# Altium schematic symbol library Miscellaneous.SchLib: 20 symbols
Pins are listed as number, name and electrical type; pins without a type are passive.

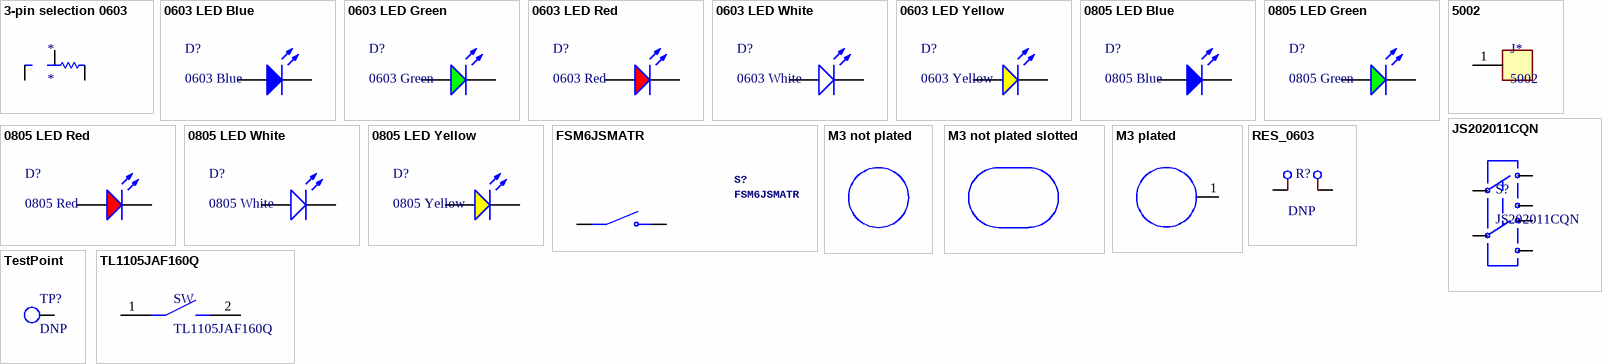
[diagram p0: symbols 3-pin selection 0603 to TL1105JAF160Q]

## 3-pin selection 0603
designator *
3-pin selection 0603
footprint 3-PIN SELECTION CIRCUIT
pins: 1, 2, 3

## 0603 LED Blue
designator D?, comment 0603 Blue
LED; ComponentLink1Description: 供应商链接; ComponentLink1URL: http://www.szlcsc.com/product/details_73150.html; Package: 0603; Supplier: LC; SuppliersPartNumber: C72041; Color: Blue
footprint 0603_LED_S1
pins: A, K

## 0603 LED Green
designator D?, comment 0603 Green
LED; ComponentLink1Description: 供应商链接; ComponentLink1URL: http://www.szlcsc.com/product/details_73152.html; Package: 0603; Supplier: LC; SuppliersPartNumber: C72043; Color: Green
footprint 0603_LED_S1
pins: A, K

## 0603 LED Red
designator D?, comment 0603 Red
LED; ComponentLink1Description: 供应商链接; ComponentLink1URL: http://www.szlcsc.com/product/details_2659.html; Package: 0603; Supplier: LC; SuppliersPartNumber: C2286; Color: Red
footprint 0603_LED_S1
pins: A, K

## 0603 LED White
designator D?, comment 0603 White
LED; ComponentLink1Description: 供应商链接; ComponentLink1URL: http://www.szlcsc.com/product/details_2663.html; Package: 0603; Supplier: LC; SuppliersPartNumber: C2290; Color: White
footprint 0603_LED_S1
pins: A, K

## 0603 LED Yellow
designator D?, comment 0603 Yellow
LED; ComponentLink1Description: 供应商链接; ComponentLink1URL: http://www.szlcsc.com/product/details_73147.html; Package: 0603; Supplier: LC; SuppliersPartNumber: C72038; Color: Yellow
footprint 0603_LED_S1
pins: A, K

## 0805 LED Blue
designator D?, comment 0805 Blue
LED; ComponentLink1Description: 供应商链接; ComponentLink1URL: http://www.szlcsc.com/product/details_2666.html; Package: 0805; Supplier: LC; SuppliersPartNumber: C2293; Color: Blue
footprint 0805_LED_S1
pins: A, K

## 0805 LED Green
designator D?, comment 0805 Green
LED; ComponentLink1Description: 供应商链接; ComponentLink1URL: http://www.szlcsc.com/product/details_2670.html; Package: 0805; Supplier: LC; SuppliersPartNumber: C2297; Color: Green
footprint 0805_LED_S1
pins: A, K

## 0805 LED Red
designator D?, comment 0805 Red
LED; ComponentLink1Description: 供应商链接; ComponentLink1URL: http://www.szlcsc.com/product/details_2668.html; Package: 0805; Supplier: LC; SuppliersPartNumber: C2295; Color: Red
footprint 0805_LED_S1
pins: A, K

## 0805 LED White
designator D?, comment 0805 White
LED; ComponentLink1Description: 供应商链接; ComponentLink1URL: http://www.szlcsc.com/product/details_35468.html; Package: 0805; Supplier: LC; SuppliersPartNumber: C34499; Color: White
footprint 0805_LED_S1
pins: A, K

## 0805 LED Yellow
designator D?, comment 0805 Yellow
LED; ComponentLink1Description: 供应商链接; ComponentLink1URL: http://www.szlcsc.com/product/details_2669.html; Package: 0805; Supplier: LC; SuppliersPartNumber: C2296; Color: Yellow
footprint 0805_LED_S1
pins: A, K

## 5002
designator J*
Test Point Ring Keystone; Manufacturer: Keystone Electronics; Value: Test Point Keystone Electronics; Package: *; PartNumber: 5002; SupplierNumber: 36-5002-ND; SuppliersPartNumber: C238123; Link: https://www.digikey.ca/en/products/detail/keystone-electronics/5002/255328
footprint KEYSTONE_5002
pins: 1

## FSM6JSMATR
designator S?
Toggle switch; Manufacturer_Name: TE Connectivity; Value: *; Mouser_Price-Stock: https://www.mouser.co.uk/ProductDetail/TE-Connectivity-Alcoswitch/FSM6JSMATR/?qs=Im7Ui%252B8riBUZTeJpDMC8Dg%3D%3D; Link: https://www.digikey.ca/en/products/detail/te-connectivity-alcoswitch-switches/FSM6JSMATR/2400236; Package: *; PartNumber: FSM6JSMATR; SupplierPartNumber: 450-2058-2-ND; SuppliersPartNumber: C178262
footprint ToggleSwitch_SM6JSMATR
pins: 1 COM, 2 COM, 3 NO, 4 NO

## JS202011CQN
designator S?
Switch Slide DPDT Through Hole; Manufacturer: C&K; Package: *; Price: None; Value: *; PartNumber: JS202011CQN; Link: https://www.digikey.ca/en/products/detail/c-k/JS202011CQN/1640097; SupplierNumber: 401-2001-ND; SuppliersPartNumber: 221663
footprint SWITCH_JS202011CQN
pins: 1 (io), 2 (io), 3 (io), 4 (io), 5 (io), 6 (io)

## M3 not plated
designator H?  (value not drawn)
M3 hole not plated
footprint M3 not plated

## M3 not plated slotted
designator H?  (value not drawn)
M3 hole not plated slotted
footprint M3 not plated - slotted

## M3 plated
designator H?  (value not drawn)
M3 hole plated
footprint M3 plated
pins: 1

## RES_0603
designator R?, comment value DNP  (hidden comment: 0603 Resistor DNP)
0603 RES Footprint; SuppliersPartNumber: *
footprint RES_0603_DNP
pins: 1, 2

## TestPoint
designator TP?, comment DNP
Test Point
footprint Test Hole with Header Pin
pins: 1

## TL1105JAF160Q
designator SW
Switch Tactile 90deg; PartNumber: TL1105JAF250Q; MF: E-Switch; Value: Tactile Switch SPST-NO Side Actuated Through Hole, Right Angle; SnapEDA_Link: https://www.snapeda.com/parts/TL1105JAF160Q/E-Switch/view-part/273816/?ref=snap; Price: None; Availability: Unavailable; MP: TL1105JAF160Q; Package: SOIC-20 E-Switch; Link: https://www.digikey.ca/en/products/detail/e-switch/TL1105JAF250Q/271561; Package: *; SupplierPartNumber: EG1864-ND
footprint SW_TL1105JAF160Q
pins: 1, 2